# EAGLE library part PSCQ-2-70N (library minicircuits1)
POWER SPLITTER 2 WAY-90° 70 MHz Center frequency: 70 MHz Frequency: 66 MHz - 74 MHz Phase unbalance: 0.80° Amplitude unbalance: 0.25 dB Internal load dissipation: 0.125 W Matched power rating: 1 W
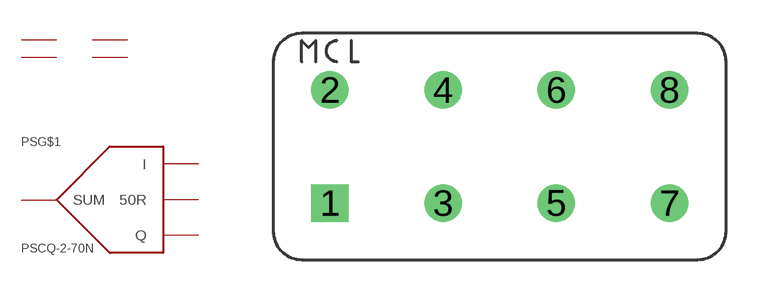
[diagram p1: symbol with the pads of A01; footprint A01]

Designator prefix PS; gates G$1=POWER_SPLITTER-90° G$2=GND G$3=GND G$4=GND G$5=GND

## PSCQ-2-70N  [A01]
1  G$1:SUM
2  G$1:I
3  G$2:GND  pwr
4  G$3:GND  pwr
5  G$1:Q
6  G$1:50R
7  G$4:GND  pwr
8  G$5:GND  pwr

## Footprint A01 (pad centres in mm)
drill 0.813 pad 1.676 square: 1 2.54,2.54
drill 0.813 pad 1.676: 2 2.54,7.62; 3 7.62,2.54; 4 7.62,7.62; 5 12.7,2.54; 6 12.7,7.62; 7 17.78,2.54; 8 17.78,7.62